# Altium schematic symbol library Diode.SchLib: 578 symbols (part 3 of 4)
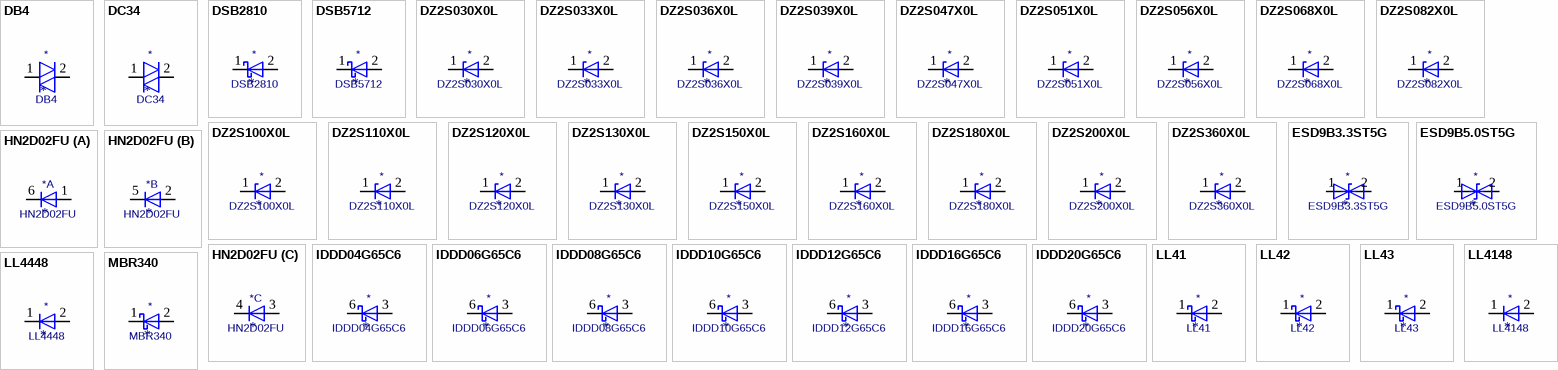
[diagram p17: symbols DB4 to MBR340]

## IDDD06G65C6
designator *  value IDDD06G65C6
ki_keywords: sic diode; ki_description: 650V, 6A, SiC Schottky Diode, CoolSiC, PG-HDSOP-10-1 (DDPAK); ki_fp_filters: Infineon*PG*HDSOP*; Footprint: Package_TO_SOT_SMD:Infineon_PG-HDSOP-10-1; Supplier: https://www.infineon.com/dgdl/Infineon-IDDD06G65C6-DS-v02_00-EN.pdf?fileId=5546d462625a528f01628f86ff8c0e09
footprint Infineon_PG-HDSOP-10-1
pins: 1 NC (in) hidden, 2 NC (in) hidden, 3 A, 4 A hidden, 5 A hidden, 6 K, 7 K hidden, 8 K hidden, 9 K hidden, 10 K hidden

## IDDD08G65C6
designator *  value IDDD08G65C6
ki_keywords: sic diode; ki_description: 650V, 8A, SiC Schottky Diode, CoolSiC, PG-HDSOP-10-1 (DDPAK); ki_fp_filters: Infineon*PG*HDSOP*; Footprint: Package_TO_SOT_SMD:Infineon_PG-HDSOP-10-1; Supplier: https://www.infineon.com/dgdl/Infineon-IDDD08G65C6-DS-v02_00-EN.pdf?fileId=5546d462625a528f01628ff7d31a104b
footprint Infineon_PG-HDSOP-10-1
pins: 1 NC (in) hidden, 2 NC (in) hidden, 3 A, 4 A hidden, 5 A hidden, 6 K, 7 K hidden, 8 K hidden, 9 K hidden, 10 K hidden

## IDDD10G65C6
designator *  value IDDD10G65C6
ki_keywords: sic diode; ki_description: 650V, 10A, SiC Schottky Diode, CoolSiC, PG-HDSOP-10-1 (DDPAK); ki_fp_filters: Infineon*PG*HDSOP*; Footprint: Package_TO_SOT_SMD:Infineon_PG-HDSOP-10-1; Supplier: https://www.infineon.com/dgdl/Infineon-IDDD10G65C6-DS-v02_00-EN.pdf?fileId=5546d462625a528f01628ff848ec1051
footprint Infineon_PG-HDSOP-10-1
pins: 1 NC (in) hidden, 2 NC (in) hidden, 3 A, 4 A hidden, 5 A hidden, 6 K, 7 K hidden, 8 K hidden, 9 K hidden, 10 K hidden

## IDDD12G65C6
designator *  value IDDD12G65C6
ki_keywords: sic diode; ki_description: 650V, 12A, SiC Schottky Diode, CoolSiC, PG-HDSOP-10-1 (DDPAK); ki_fp_filters: Infineon*PG*HDSOP*; Footprint: Package_TO_SOT_SMD:Infineon_PG-HDSOP-10-1; Supplier: https://www.infineon.com/dgdl/Infineon-IDDD12G65C6-DS-v02_00-EN.pdf?fileId=5546d462625a528f01628f86ec3e0e06
footprint Infineon_PG-HDSOP-10-1
pins: 1 NC (in) hidden, 2 NC (in) hidden, 3 A, 4 A hidden, 5 A hidden, 6 K, 7 K hidden, 8 K hidden, 9 K hidden, 10 K hidden

## IDDD16G65C6
designator *  value IDDD16G65C6
ki_keywords: sic diode; ki_description: 650V, 16A, SiC Schottky Diode, CoolSiC, PG-HDSOP-10-1 (DDPAK); ki_fp_filters: Infineon*PG*HDSOP*; Footprint: Package_TO_SOT_SMD:Infineon_PG-HDSOP-10-1; Supplier: https://www.infineon.com/dgdl/Infineon-IDDD16G65C6-DS-v02_00-EN.pdf?fileId=5546d462625a528f01628f8711b50e0c
footprint Infineon_PG-HDSOP-10-1
pins: 1 NC (in) hidden, 2 NC (in) hidden, 3 A, 4 A hidden, 5 A hidden, 6 K, 7 K hidden, 8 K hidden, 9 K hidden, 10 K hidden

## IDDD20G65C6
designator *  value IDDD20G65C6
ki_keywords: sic diode; ki_description: 650V, 20A, SiC Schottky Diode, CoolSiC, PG-HDSOP-10-1 (DDPAK); ki_fp_filters: Infineon*PG*HDSOP*; Footprint: Package_TO_SOT_SMD:Infineon_PG-HDSOP-10-1; Supplier: https://www.infineon.com/dgdl/Infineon-IDDD20G65C6-DS-v02_00-EN.pdf?fileId=5546d462625a528f01628ff837cf104e
footprint Infineon_PG-HDSOP-10-1
pins: 1 NC (in) hidden, 2 NC (in) hidden, 3 A, 4 A hidden, 5 A hidden, 6 K, 7 K hidden, 8 K hidden, 9 K hidden, 10 K hidden

## LL41
designator *  value LL41
ki_keywords: diode Schottky; ki_description: 100V 0.1A Small Signal Schottky diode, MiniMELF; ki_fp_filters: D*MiniMELF*; Footprint: Diode_SMD:D_MiniMELF; Supplier: http://www.vishay.com/docs/85659/bat41.pdf
footprint D_MiniMELF
pins: 1 K, 2 A

## LL42
designator *  value LL42
ki_keywords: diode Schottky; ki_description: 30V 0.2A Small Signal Schottky diode, MiniMELF; ki_fp_filters: D*MiniMELF*; Footprint: Diode_SMD:D_MiniMELF; Supplier: http://www.vishay.com/docs/85672/ll42.pdf
footprint D_MiniMELF
pins: 1 K, 2 A

## LL43
designator *  value LL43
ki_keywords: diode Schottky; ki_description: 30V 0.2A Small Signal Schottky diode, MiniMELF; ki_fp_filters: D*MiniMELF*; Footprint: Diode_SMD:D_MiniMELF; Supplier: http://www.vishay.com/docs/85672/ll42.pdf
footprint D_MiniMELF
pins: 1 K, 2 A

## LL4148
designator *  value LL4148
ki_keywords: diode; ki_description: 100V 0.15A standard switching diode, MiniMELF; ki_fp_filters: D*MiniMELF*; Footprint: Diode_SMD:D_MiniMELF; Supplier: http://www.vishay.com/docs/85557/ll4148.pdf
footprint D_MiniMELF
pins: 1 K, 2 A

## LL4448
designator *  value LL4448
ki_keywords: diode; ki_description: 100V 0.15A standard switching diode, MiniMELF; ki_fp_filters: D*MiniMELF*; Footprint: Diode_SMD:D_MiniMELF; Supplier: http://www.vishay.com/docs/85557/ll4148.pdf
footprint D_MiniMELF
pins: 1 K, 2 A

## MBR340
designator *  value MBR340
ki_keywords: diode Schottky; ki_description: 40V 3A Schottky Barrier Rectifier Diode, DO-201AD; ki_fp_filters: D*DO?201AD*; Footprint: Diode_THT:D_DO-201AD_P15.24mm_Horizontal; Supplier: http://www.onsemi.com/pub_link/Collateral/MBR340-D.PDF
footprint D_DO-201AD_P15.24mm_Horizontal
pins: 1 K, 2 A

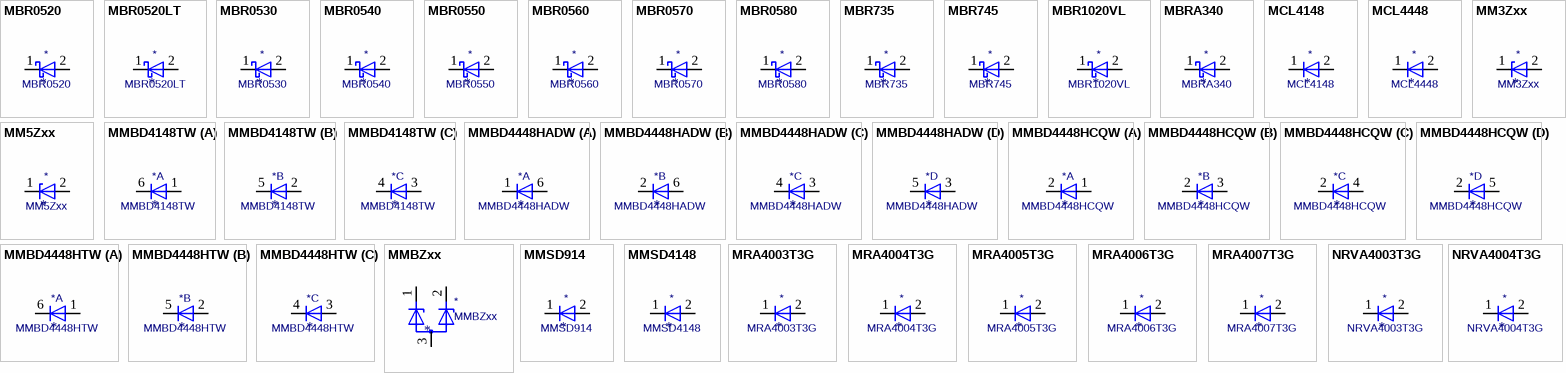
[diagram p9: symbols MBR0520 to NRVA4004T3G]

## MBR0520
designator *  value MBR0520
ki_keywords: diode Schottky; ki_description: 20V 0.5A Schottky Power Rectifier Diode, SOD-123; ki_fp_filters: D*SOD?123*; Footprint: Diode_SMD:D_SOD-123; Supplier: http://www.mccsemi.com/up_pdf/MBR0520~MBR0580(SOD123).pdf
footprint D_SOD-123
pins: 1 K, 2 A

## MBR0520LT
designator *  value MBR0520LT
ki_keywords: diode Schottky; ki_description: 20V 0.5A Schottky Power Rectifier Diode, SOD-123; ki_fp_filters: D*SOD?123*; Footprint: Diode_SMD:D_SOD-123; Supplier: http://www.onsemi.com/pub_link/Collateral/MBR0520LT1-D.PDF
footprint D_SOD-123
pins: 1 K, 2 A

## MBR0530
designator *  value MBR0530
ki_keywords: diode Schottky; ki_description: 30V 0.5A Schottky Power Rectifier Diode, SOD-123; ki_fp_filters: D*SOD?123*; Footprint: Diode_SMD:D_SOD-123; Supplier: http://www.mccsemi.com/up_pdf/MBR0520~MBR0580(SOD123).pdf
footprint D_SOD-123
pins: 1 K, 2 A

## MBR0540
designator *  value MBR0540
ki_keywords: diode Schottky; ki_description: 40V 0.5A Schottky Power Rectifier Diode, SOD-123; ki_fp_filters: D*SOD?123*; Footprint: Diode_SMD:D_SOD-123; Supplier: http://www.mccsemi.com/up_pdf/MBR0520~MBR0580(SOD123).pdf
footprint D_SOD-123
pins: 1 K, 2 A

## MBR0550
designator *  value MBR0550
ki_keywords: diode Schottky; ki_description: 50V 0.5A Schottky Power Rectifier Diode, SOD-123; ki_fp_filters: D*SOD?123*; Footprint: Diode_SMD:D_SOD-123; Supplier: http://www.mccsemi.com/up_pdf/MBR0520~MBR0580(SOD123).pdf
footprint D_SOD-123
pins: 1 K, 2 A

## MBR0560
designator *  value MBR0560
ki_keywords: diode Schottky; ki_description: 60V 0.5A Schottky Power Rectifier Diode, SOD-123; ki_fp_filters: D*SOD?123*; Footprint: Diode_SMD:D_SOD-123; Supplier: http://www.mccsemi.com/up_pdf/MBR0520~MBR0580(SOD123).pdf
footprint D_SOD-123
pins: 1 K, 2 A

## MBR0570
designator *  value MBR0570
ki_keywords: diode Schottky; ki_description: 70V 0.5A Schottky Power Rectifier Diode, SOD-123; ki_fp_filters: D*SOD?123*; Footprint: Diode_SMD:D_SOD-123; Supplier: http://www.mccsemi.com/up_pdf/MBR0520~MBR0580(SOD123).pdf
footprint D_SOD-123
pins: 1 K, 2 A

## MBR0580
designator *  value MBR0580
ki_keywords: diode Schottky; ki_description: 80V 0.5A Schottky Power Rectifier Diode, SOD-123; ki_fp_filters: D*SOD?123*; Footprint: Diode_SMD:D_SOD-123; Supplier: http://www.mccsemi.com/up_pdf/MBR0520~MBR0580(SOD123).pdf
footprint D_SOD-123
pins: 1 K, 2 A

## MBR735
designator *  value MBR735
ki_keywords: diode Schottky; ki_description: 35V 7.5A Schottky Barrier Rectifier Diode, TO-220; ki_fp_filters: TO?220*; Footprint: Package_TO_SOT_THT:TO-220-2_Vertical; Supplier: http://www.onsemi.com/pub_link/Collateral/MBR735-D.PDF
footprint TO-220-2_Vertical
pins: 1 K, 2 A

## MBR745
designator *  value MBR745
ki_keywords: diode Schottky; ki_description: 45V 7.5A Schottky Barrier Rectifier Diode, TO-220; ki_fp_filters: TO?220*; Footprint: Package_TO_SOT_THT:TO-220-2_Vertical; Supplier: http://www.onsemi.com/pub_link/Collateral/MBR735-D.PDF
footprint TO-220-2_Vertical
pins: 1 K, 2 A

## MBR1020VL
designator *  value MBR1020VL
ki_keywords: forward voltage diode; ki_description: 20V, 1A, 340 mV, Schottky Diode Rectifier, SOD-123F; ki_fp_filters: D*SOD?123F*; Footprint: Diode_SMD:D_SOD-123F; Supplier: https://www.onsemi.com/pub/Collateral/MBR1020VL-D.PDF
footprint D_SOD-123F
pins: 1 K, 2 A

## MBRA340
designator *  value MBRA340
ki_keywords: diode Schottky; ki_description: 40V 3A Schottky Barrier Rectifier Diode, SMA(DO-214AC); ki_fp_filters: D*SMA*; Footprint: Diode_SMD:D_SMA; Supplier: https://www.onsemi.com/pub/Collateral/MBRA340T3-D.PDF
footprint D_SMA
pins: 1 K, 2 A

## MCL4148
designator *  value MCL4148
ki_keywords: diode; ki_description: 75V 0.2A Switching Diode, MicroMELF; ki_fp_filters: D*MicroMELF*; Footprint: Diode_SMD:D_MicroMELF; Supplier: http://www.vishay.com/docs/85566/mlc4148.pdf
footprint D_MicroMELF
pins: 1 K, 2 A

## MCL4448
designator *  value MCL4448
ki_keywords: diode; ki_description: 75V 0.2A Switching Diode, MicroMELF; ki_fp_filters: D*MicroMELF*; Footprint: Diode_SMD:D_MicroMELF; Supplier: http://www.vishay.com/docs/85566/mlc4148.pdf
footprint D_MicroMELF
pins: 1 K, 2 A

## MM3Zxx
designator *  value MM3Zxx
ki_keywords: zener diode; ki_description: 300mW Zener Diode, SOD-323F; ki_fp_filters: D?SOD?323F*; Footprint: Diode_SMD:D_SOD-323F; Supplier: https://diotec.com/tl_files/diotec/files/pdf/datasheets/mm3z2v4.pdf
footprint D_SOD-323F
pins: 1 K, 2 A

## MM5Zxx
designator *  value MM5Zxx
ki_keywords: zener diode; ki_description: 300mW Zener Diode, SOD-523; ki_fp_filters: D?SOD?523*; Footprint: Diode_SMD:D_SOD-523; Supplier: https://diotec.com/tl_files/diotec/files/pdf/datasheets/mm5z2v4.pdf
footprint D_SOD-523
pins: 1 K, 2 A

## MMBD4148TW
designator *  value MMBD4148TW
ki_keywords: diode; ki_description: Fast switching diode array 3 independent; ki_fp_filters: *SOT?363*; Footprint: Package_TO_SOT_SMD:SOT-363_SC-70-6; Supplier: http://www.diodes.com/datasheets/ds30154.pdf
footprint SOT-363_SC-70-6
part A pins: 1 A, 6 K
part B pins: 2 A, 5 K
part C pins: 3 A, 4 K

## MMBD4448HADW
designator *  value MMBD4448HADW
ki_keywords: diode; ki_description: Fast Switching Diode Array 2 pair Com A; ki_fp_filters: SOT?363*; Footprint: Package_TO_SOT_SMD:SOT-363_SC-70-6; Supplier: http://www.diodes.com/datasheets/ds30153.pdf
footprint SOT-363_SC-70-6
part A pins: 1 K, 6 A
part B pins: 2 K, 6 A
part C pins: 3 A, 4 K
part D pins: 3 A, 5 K

## MMBD4448HCQW
designator *  value MMBD4448HCQW
ki_keywords: diode; ki_description: Quad Switching Diode Array Common Cathode; ki_fp_filters: SOT?353*; Footprint: Package_TO_SOT_SMD:SOT-353_SC-70-5; Supplier: http://www.diodes.com/datasheets/ds30153.pdf
footprint SOT-353_SC-70-5
part A pins: 1 A, 2 K
part B pins: 2 K, 3 A
part C pins: 2 K, 4 A
part D pins: 2 K, 5 A

## MMBD4448HTW
designator *  value MMBD4448HTW
ki_keywords: diode; ki_description: Fast switching diode array 3 independent; ki_fp_filters: *SOT?363*; Footprint: Package_TO_SOT_SMD:SOT-363_SC-70-6; Supplier: http://www.diodes.com/datasheets/ds30153.pdf
footprint SOT-363_SC-70-6
part A pins: 1 A, 6 K
part B pins: 2 A, 5 K
part C pins: 3 A, 4 K

## MMBZxx
designator *  value MMBZxx
ki_keywords: dual zener diode; ki_description: Double Zener Diode, Common Anode, 225mW, SOT-23; ki_fp_filters: SOT?23*; Footprint: Package_TO_SOT_SMD:SOT-23; Supplier: http://www.onsemi.com/pub/Collateral/MMBZ5V6ALT1-D.PDF
footprint SOT-23
pins: 1 K, 2 K, 3 A

## MMSD914
designator *  value MMSD914
ki_keywords: diode; ki_description: 100V 0.2A Switching Diode, SOD-123; ki_fp_filters: D*SOD?123*; Footprint: Diode_SMD:D_SOD-123; Supplier: https://www.onsemi.com/pub/Collateral/MMSD914T1-D.PDF
footprint D_SOD-123
pins: 1 K, 2 A

## MMSD4148
designator *  value MMSD4148
ki_keywords: diode; ki_description: 100V 200mA Switching Diode, SOD-123; ki_fp_filters: D*SOD?123*; Footprint: Diode_SMD:D_SOD-123; Supplier: https://www.onsemi.com/pub/Collateral/MMSD4148T1-D.PDF
footprint D_SOD-123
pins: 1 K, 2 A

## MRA4003T3G
designator *  value MRA4003T3G
ki_keywords: diode; ki_description: 300V, 1A, General Purpose Rectifier Diode, SMA(DO-214AC); ki_fp_filters: D*SMA*; Footprint: Diode_SMD:D_SMA; Supplier: http://www.onsemi.com/pub_link/Collateral/MRA4003T3-D.PDF
footprint D_SMA
pins: 1 K, 2 A

## MRA4004T3G
designator *  value MRA4004T3G
ki_keywords: diode; ki_description: 400V, 1A, General Purpose Rectifier Diode, SMA(DO-214AC); ki_fp_filters: D*SMA*; Footprint: Diode_SMD:D_SMA; Supplier: http://www.onsemi.com/pub_link/Collateral/MRA4003T3-D.PDF
footprint D_SMA
pins: 1 K, 2 A

## MRA4005T3G
designator *  value MRA4005T3G
ki_keywords: diode; ki_description: 600V, 1A, General Purpose Rectifier Diode, SMA(DO-214AC); ki_fp_filters: D*SMA*; Footprint: Diode_SMD:D_SMA; Supplier: http://www.onsemi.com/pub_link/Collateral/MRA4003T3-D.PDF
footprint D_SMA
pins: 1 K, 2 A

## MRA4006T3G
designator *  value MRA4006T3G
ki_keywords: diode; ki_description: 800V, 1A, General Purpose Rectifier Diode, SMA(DO-214AC); ki_fp_filters: D*SMA*; Footprint: Diode_SMD:D_SMA; Supplier: http://www.onsemi.com/pub_link/Collateral/MRA4003T3-D.PDF
footprint D_SMA
pins: 1 K, 2 A

## MRA4007T3G
designator *  value MRA4007T3G
ki_keywords: diode; ki_description: 1000V, 1A, General Purpose Rectifier Diode, SMA(DO-214AC); ki_fp_filters: D*SMA*; Footprint: Diode_SMD:D_SMA; Supplier: http://www.onsemi.com/pub_link/Collateral/MRA4003T3-D.PDF
footprint D_SMA
pins: 1 K, 2 A

## NRVA4003T3G
designator *  value NRVA4003T3G
ki_keywords: AEC-Q101; ki_description: 300V, 1A, General Purpose Rectifier Diode, SMA(DO-214AC); ki_fp_filters: D*SMA*; Footprint: Diode_SMD:D_SMA; Supplier: http://www.onsemi.com/pub_link/Collateral/MRA4003T3-D.PDF
footprint D_SMA
pins: 1 K, 2 A

## NRVA4004T3G
designator *  value NRVA4004T3G
ki_keywords: AEC-Q101; ki_description: 400V, 1A, General Purpose Rectifier Diode, SMA(DO-214AC); ki_fp_filters: D*SMA*; Footprint: Diode_SMD:D_SMA; Supplier: http://www.onsemi.com/pub_link/Collateral/MRA4003T3-D.PDF
footprint D_SMA
pins: 1 K, 2 A

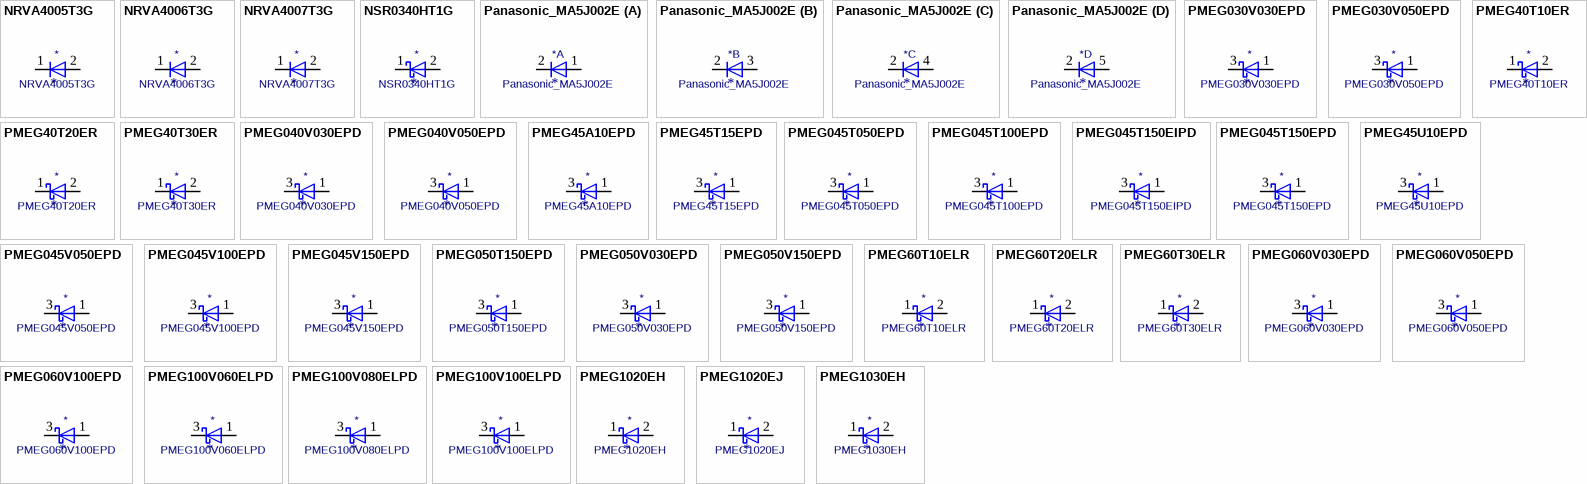
[diagram p10: symbols NRVA4005T3G to PMEG1030EH]

## NRVA4005T3G
designator *  value NRVA4005T3G
ki_keywords: AEC-Q101; ki_description: 600V, 1A, General Purpose Rectifier Diode, SMA(DO-214AC); ki_fp_filters: D*SMA*; Footprint: Diode_SMD:D_SMA; Supplier: http://www.onsemi.com/pub_link/Collateral/MRA4003T3-D.PDF
footprint D_SMA
pins: 1 K, 2 A

## NRVA4006T3G
designator *  value NRVA4006T3G
ki_keywords: AEC-Q101; ki_description: 800V, 1A, General Purpose Rectifier Diode, SMA(DO-214AC); ki_fp_filters: D*SMA*; Footprint: Diode_SMD:D_SMA; Supplier: http://www.onsemi.com/pub_link/Collateral/MRA4003T3-D.PDF
footprint D_SMA
pins: 1 K, 2 A

## NRVA4007T3G
designator *  value NRVA4007T3G
ki_keywords: AEC-Q101; ki_description: 1000V, 1A, General Purpose Rectifier Diode, SMA(DO-214AC); ki_fp_filters: D*SMA*; Footprint: Diode_SMD:D_SMA; Supplier: http://www.onsemi.com/pub_link/Collateral/MRA4003T3-D.PDF
footprint D_SMA
pins: 1 K, 2 A

## NSR0340HT1G
designator *  value NSR0340HT1G
ki_keywords: diode Schottky; ki_description: 40V 0.25A Schottky Diode, SOD-323; ki_fp_filters: D*SOD?323*; Footprint: Diode_SMD:D_SOD-323; Supplier: https://www.onsemi.com/pub/Collateral/NSR0340H-D.PDF
footprint D_SOD-323
pins: 1 K, 2 A

## Panasonic_MA5J002E
designator *  value Panasonic_MA5J002E
ki_keywords: diode; ki_description: Quad Ultra high Speed Switching Diode Array Com K; ki_fp_filters: SOT?353*; Footprint: Package_TO_SOT_SMD:SOT-353_SC-70-5; Supplier: http://www.semicon.panasonic.co.jp/ds4/MA5J002E_BED_discon.pdf
footprint SOT-353_SC-70-5
part A pins: 1 A, 2 K
part B pins: 2 K, 3 A
part C pins: 2 K, 4 A
part D pins: 2 K, 5 A

## PMEG030V030EPD
designator *  value PMEG030V030EPD
ki_keywords: forward voltage diode; ki_description: 30V, 3A low Vf MEGA Schottky barrier rectifier, SOT-1289; ki_fp_filters: Nexperia*CFP15*SOT?1289*; Footprint: Package_TO_SOT_SMD:Nexperia_CFP15_SOT-1289; Supplier: https://assets.nexperia.com/documents/data-sheet/PMEG030V030EPD.pdf
footprint Nexperia_CFP15_SOT-1289
pins: 1 A, 2 A hidden, 3 K

## PMEG030V050EPD
designator *  value PMEG030V050EPD
ki_keywords: forward voltage diode; ki_description: 30V, 5A low Vf MEGA Schottky barrier rectifier, SOT-1289; ki_fp_filters: Nexperia*CFP15*SOT?1289*; Footprint: Package_TO_SOT_SMD:Nexperia_CFP15_SOT-1289; Supplier: https://assets.nexperia.com/documents/data-sheet/PMEG030V050EPD.pdf
footprint Nexperia_CFP15_SOT-1289
pins: 1 A, 2 A hidden, 3 K

## PMEG40T10ER
designator *  value PMEG40T10ER
ki_keywords: forward voltage diode; ki_description: 40V, 1A low Vf Trench MEGA Schottky barrier rectifier, SOD-123W; ki_fp_filters: Nexperia*CFP3*SOD?123W*; Footprint: Diode_SMD:Nexperia_CFP3_SOD-123W; Supplier: https://assets.nexperia.com/documents/data-sheet/PMEG40T10ER.pdf
footprint Nexperia_CFP3_SOD-123W
pins: 1 K, 2 A

## PMEG40T20ER
designator *  value PMEG40T20ER
ki_keywords: forward voltage diode; ki_description: 40V, 2A low Vf Trench MEGA Schottky barrier rectifier, SOD-123W; ki_fp_filters: Nexperia*CFP3*SOD?123W*; Footprint: Diode_SMD:Nexperia_CFP3_SOD-123W; Supplier: https://assets.nexperia.com/documents/data-sheet/PMEG40T20ER.pdf
footprint Nexperia_CFP3_SOD-123W
pins: 1 K, 2 A

## PMEG40T30ER
designator *  value PMEG40T30ER
ki_keywords: forward voltage diode; ki_description: 40V, 3A low Vf Trench MEGA Schottky barrier rectifier, SOD-123W; ki_fp_filters: Nexperia*CFP3*SOD?123W*; Footprint: Diode_SMD:Nexperia_CFP3_SOD-123W; Supplier: https://assets.nexperia.com/documents/data-sheet/PMEG40T30ER.pdf
footprint Nexperia_CFP3_SOD-123W
pins: 1 K, 2 A

## PMEG040V030EPD
designator *  value PMEG040V030EPD
ki_keywords: forward voltage diode; ki_description: 40V, 3A low Vf MEGA Schottky barrier rectifier, SOT-1289; ki_fp_filters: Nexperia*CFP15*SOT?1289*; Footprint: Package_TO_SOT_SMD:Nexperia_CFP15_SOT-1289; Supplier: https://assets.nexperia.com/documents/data-sheet/PMEG040V030EPD.pdf
footprint Nexperia_CFP15_SOT-1289
pins: 1 A, 2 A hidden, 3 K

## PMEG040V050EPD
designator *  value PMEG040V050EPD
ki_keywords: forward voltage diode; ki_description: 40V, 5A low Vf MEGA Schottky barrier rectifier, SOT-1289; ki_fp_filters: Nexperia*CFP15*SOT?1289*; Footprint: Package_TO_SOT_SMD:Nexperia_CFP15_SOT-1289; Supplier: https://assets.nexperia.com/documents/data-sheet/PMEG040V050EPD.pdf
footprint Nexperia_CFP15_SOT-1289
pins: 1 A, 2 A hidden, 3 K

## PMEG45A10EPD
designator *  value PMEG45A10EPD
ki_keywords: forward voltage diode; ki_description: 45V, 10A low Vf MEGA Schottky barrier rectifier, SOT-1289; ki_fp_filters: Nexperia*CFP15*SOT?1289*; Footprint: Package_TO_SOT_SMD:Nexperia_CFP15_SOT-1289; Supplier: https://assets.nexperia.com/documents/data-sheet/PMEG45A10EPD.pdf
footprint Nexperia_CFP15_SOT-1289
pins: 1 A, 2 A hidden, 3 K

## PMEG45T15EPD
designator *  value PMEG45T15EPD
ki_keywords: forward voltage diode; ki_description: 45V, 15A low Vf Trench MEGA Schottky barrier rectifier, SOT-1289; ki_fp_filters: Nexperia*CFP15*SOT?1289*; Footprint: Package_TO_SOT_SMD:Nexperia_CFP15_SOT-1289; Supplier: https://assets.nexperia.com/documents/data-sheet/PMEG45T15EPD.pdf
footprint Nexperia_CFP15_SOT-1289
pins: 1 A, 2 A hidden, 3 K

## PMEG045T050EPD
designator *  value PMEG045T050EPD
ki_keywords: forward voltage diode; ki_description: 45V, 5A low Vf Trench MEGA Schottky barrier rectifier, SOT-1289; ki_fp_filters: Nexperia*CFP15*SOT?1289*; Footprint: Package_TO_SOT_SMD:Nexperia_CFP15_SOT-1289; Supplier: https://assets.nexperia.com/documents/data-sheet/PMEG045T050EPD.pdf
footprint Nexperia_CFP15_SOT-1289
pins: 1 A, 2 A hidden, 3 K

## PMEG045T100EPD
designator *  value PMEG045T100EPD
ki_keywords: forward voltage diode; ki_description: 45V, 10A low Vf Trench MEGA Schottky barrier rectifier, SOT-1289; ki_fp_filters: Nexperia*CFP15*SOT?1289*; Footprint: Package_TO_SOT_SMD:Nexperia_CFP15_SOT-1289; Supplier: https://assets.nexperia.com/documents/data-sheet/PMEG045T100EPD.pdf
footprint Nexperia_CFP15_SOT-1289
pins: 1 A, 2 A hidden, 3 K

## PMEG045T150EIPD
designator *  value PMEG045T150EIPD
ki_keywords: forward voltage diode; ki_description: 45V, 15A low Vf Trench MEGA Schottky barrier rectifier, SOT-1289; ki_fp_filters: Nexperia*CFP15*SOT?1289*; Footprint: Package_TO_SOT_SMD:Nexperia_CFP15_SOT-1289; Supplier: https://assets.nexperia.com/documents/data-sheet/PMEG045T150EIPD.pdf
footprint Nexperia_CFP15_SOT-1289
pins: 1 A, 2 A hidden, 3 K

## PMEG045T150EPD
designator *  value PMEG045T150EPD
ki_keywords: forward voltage diode; ki_description: 45V, 15A low Vf Trench MEGA Schottky barrier rectifier, SOT-1289; ki_fp_filters: Nexperia*CFP15*SOT?1289*; Footprint: Package_TO_SOT_SMD:Nexperia_CFP15_SOT-1289; Supplier: https://assets.nexperia.com/documents/data-sheet/PMEG045T150EPD.pdf
footprint Nexperia_CFP15_SOT-1289
pins: 1 A, 2 A hidden, 3 K

## PMEG45U10EPD
designator *  value PMEG45U10EPD
ki_keywords: forward voltage diode; ki_description: 45V, 10A extremely low Vf MEGA Schottky barrier rectifier, SOT-1289; ki_fp_filters: Nexperia*CFP15*SOT?1289*; Footprint: Package_TO_SOT_SMD:Nexperia_CFP15_SOT-1289; Supplier: https://assets.nexperia.com/documents/data-sheet/PMEG45U10EPD.pdf
footprint Nexperia_CFP15_SOT-1289
pins: 1 A, 2 A hidden, 3 K

## PMEG045V050EPD
designator *  value PMEG045V050EPD
ki_keywords: forward voltage diode; ki_description: 45V, 5A low Vf MEGA Schottky barrier rectifier, SOT-1289; ki_fp_filters: Nexperia*CFP15*SOT?1289*; Footprint: Package_TO_SOT_SMD:Nexperia_CFP15_SOT-1289; Supplier: https://assets.nexperia.com/documents/data-sheet/PMEG045V050EPD.pdf
footprint Nexperia_CFP15_SOT-1289
pins: 1 A, 2 A hidden, 3 K

## PMEG045V100EPD
designator *  value PMEG045V100EPD
ki_keywords: forward voltage diode; ki_description: 45V, 10A low Vf MEGA Schottky barrier rectifier, SOT-1289; ki_fp_filters: Nexperia*CFP15*SOT?1289*; Footprint: Package_TO_SOT_SMD:Nexperia_CFP15_SOT-1289; Supplier: https://assets.nexperia.com/documents/data-sheet/PMEG045V100EPD.pdf
footprint Nexperia_CFP15_SOT-1289
pins: 1 A, 2 A hidden, 3 K

## PMEG045V150EPD
designator *  value PMEG045V150EPD
ki_keywords: forward voltage diode; ki_description: 45V, 15A low Vf MEGA Schottky barrier rectifier, SOT-1289; ki_fp_filters: Nexperia*CFP15*SOT?1289*; Footprint: Package_TO_SOT_SMD:Nexperia_CFP15_SOT-1289; Supplier: https://assets.nexperia.com/documents/data-sheet/PMEG045V150EPD.pdf
footprint Nexperia_CFP15_SOT-1289
pins: 1 A, 2 A hidden, 3 K

## PMEG050T150EPD
designator *  value PMEG050T150EPD
ki_keywords: forward voltage diode; ki_description: 50V, 15A low Vf Trench MEGA Schottky barrier rectifier, SOT-1289; ki_fp_filters: Nexperia*CFP15*SOT?1289*; Footprint: Package_TO_SOT_SMD:Nexperia_CFP15_SOT-1289; Supplier: https://assets.nexperia.com/documents/data-sheet/PMEG050T150EPD.pdf
footprint Nexperia_CFP15_SOT-1289
pins: 1 A, 2 A hidden, 3 K

## PMEG050V030EPD
designator *  value PMEG050V030EPD
ki_keywords: forward voltage diode; ki_description: 50V, 3A low Vf MEGA Schottky barrier rectifier, SOT-1289; ki_fp_filters: Nexperia*CFP15*SOT?1289*; Footprint: Package_TO_SOT_SMD:Nexperia_CFP15_SOT-1289; Supplier: https://assets.nexperia.com/documents/data-sheet/PMEG050V030EPD.pdf
footprint Nexperia_CFP15_SOT-1289
pins: 1 A, 2 A hidden, 3 K

## PMEG050V150EPD
designator *  value PMEG050V150EPD
ki_keywords: forward voltage diode; ki_description: 50V, 15A low Vf MEGA Schottky barrier rectifier, SOT-1289; ki_fp_filters: Nexperia*CFP15*SOT?1289*; Footprint: Package_TO_SOT_SMD:Nexperia_CFP15_SOT-1289; Supplier: https://assets.nexperia.com/documents/data-sheet/PMEG050V150EPD.pdf
footprint Nexperia_CFP15_SOT-1289
pins: 1 A, 2 A hidden, 3 K

## PMEG60T10ELR
designator *  value PMEG60T10ELR
ki_keywords: ir diode; ki_description: 60V, 1A low leakage current Trench MEGA Schottky barrier rectifier, SOD-123W; ki_fp_filters: Nexperia*CFP3*SOD?123W*; Footprint: Diode_SMD:Nexperia_CFP3_SOD-123W; Supplier: https://assets.nexperia.com/documents/data-sheet/PMEG60T10ELR.pdf
footprint Nexperia_CFP3_SOD-123W
pins: 1 K, 2 A

## PMEG60T20ELR
designator *  value PMEG60T20ELR
ki_keywords: ir diode; ki_description: 60V, 2A low leakage current Trench MEGA Schottky barrier rectifier, SOD-123W; ki_fp_filters: Nexperia*CFP3*SOD?123W*; Footprint: Diode_SMD:Nexperia_CFP3_SOD-123W; Supplier: https://assets.nexperia.com/documents/data-sheet/PMEG60T20ELR.pdf
footprint Nexperia_CFP3_SOD-123W
pins: 1 K, 2 A

## PMEG60T30ELR
designator *  value PMEG60T30ELR
ki_keywords: ir diode; ki_description: 60V, 3A low leakage current Trench MEGA Schottky barrier rectifier, SOD-123W; ki_fp_filters: Nexperia*CFP3*SOD?123W*; Footprint: Diode_SMD:Nexperia_CFP3_SOD-123W; Supplier: https://assets.nexperia.com/documents/data-sheet/PMEG60T30ELR.pdf
footprint Nexperia_CFP3_SOD-123W
pins: 1 K, 2 A

## PMEG060V030EPD
designator *  value PMEG060V030EPD
ki_keywords: forward voltage diode; ki_description: 60V, 3A low Vf MEGA Schottky barrier rectifier, SOT-1289; ki_fp_filters: Nexperia*CFP15*SOT?1289*; Footprint: Package_TO_SOT_SMD:Nexperia_CFP15_SOT-1289; Supplier: https://assets.nexperia.com/documents/data-sheet/PMEG060V030EPD.pdf
footprint Nexperia_CFP15_SOT-1289
pins: 1 A, 2 A hidden, 3 K

## PMEG060V050EPD
designator *  value PMEG060V050EPD
ki_keywords: forward voltage diode; ki_description: 60V, 5A low Vf MEGA Schottky barrier rectifier, SOT-1289; ki_fp_filters: Nexperia*CFP15*SOT?1289*; Footprint: Package_TO_SOT_SMD:Nexperia_CFP15_SOT-1289; Supplier: https://assets.nexperia.com/documents/data-sheet/PMEG060V050EPD.pdf
footprint Nexperia_CFP15_SOT-1289
pins: 1 A, 2 A hidden, 3 K

## PMEG060V100EPD
designator *  value PMEG060V100EPD
ki_keywords: forward voltage diode; ki_description: 60V, 10A low Vf MEGA Schottky barrier rectifier, SOT-1289; ki_fp_filters: Nexperia*CFP15*SOT?1289*; Footprint: Package_TO_SOT_SMD:Nexperia_CFP15_SOT-1289; Supplier: https://assets.nexperia.com/documents/data-sheet/PMEG060V100EPD.pdf
footprint Nexperia_CFP15_SOT-1289
pins: 1 A, 2 A hidden, 3 K

## PMEG100V060ELPD
designator *  value PMEG100V060ELPD
ki_keywords: ir diode; ki_description: 100V, 6A low leakage current MEGA Schottky barrier rectifier, SOT-1289; ki_fp_filters: Nexperia*CFP15*SOT?1289*; Footprint: Package_TO_SOT_SMD:Nexperia_CFP15_SOT-1289; Supplier: https://assets.nexperia.com/documents/data-sheet/PMEG100V060ELPD.pdf
footprint Nexperia_CFP15_SOT-1289
pins: 1 A, 2 A hidden, 3 K

## PMEG100V080ELPD
designator *  value PMEG100V080ELPD
ki_keywords: ir diode; ki_description: 100V, 8A low leakage current MEGA Schottky barrier rectifier, SOT-1289; ki_fp_filters: Nexperia*CFP15*SOT?1289*; Footprint: Package_TO_SOT_SMD:Nexperia_CFP15_SOT-1289; Supplier: https://assets.nexperia.com/documents/data-sheet/PMEG100V080ELPD.pdf
footprint Nexperia_CFP15_SOT-1289
pins: 1 A, 2 A hidden, 3 K

## PMEG100V100ELPD
designator *  value PMEG100V100ELPD
ki_keywords: ir diode; ki_description: 100V, 10A low leakage current MEGA Schottky barrier rectifier, SOT-1289; ki_fp_filters: Nexperia*CFP15*SOT?1289*; Footprint: Package_TO_SOT_SMD:Nexperia_CFP15_SOT-1289; Supplier: https://assets.nexperia.com/documents/data-sheet/PMEG100V100ELPD.pdf
footprint Nexperia_CFP15_SOT-1289
pins: 1 A, 2 A hidden, 3 K

## PMEG1020EH
designator *  value PMEG1020EH
ki_keywords: forward voltage diode; ki_description: 10V, 2A ultra low Vf MEGA Schottky barrier rectifier, SOD-123F; ki_fp_filters: D*SOD?123F*; Footprint: Diode_SMD:D_SOD-123F; Supplier: https://assets.nexperia.com/documents/data-sheet/PMEG1020EH_EJ.pdf
footprint D_SOD-123F
pins: 1 K, 2 A

## PMEG1020EJ
designator *  value PMEG1020EJ
ki_keywords: forward voltage diode; ki_description: 10V, 2A ultra low Vf MEGA Schottky barrier rectifier, SOD-323F; ki_fp_filters: D*SOD?323F*; Footprint: Diode_SMD:D_SOD-323F; Supplier: https://assets.nexperia.com/documents/data-sheet/PMEG1020EH_EJ.pdf
footprint D_SOD-323F
pins: 1 K, 2 A

## PMEG1030EH
designator *  value PMEG1030EH
ki_keywords: forward voltage diode; ki_description: 10V, 3A ultra low Vf MEGA Schottky barrier rectifier, SOD-123F; ki_fp_filters: D*SOD?123F*; Footprint: Diode_SMD:D_SOD-123F; Supplier: https://assets.nexperia.com/documents/data-sheet/PMEG1030EH_EJ.pdf
footprint D_SOD-123F
pins: 1 K, 2 A

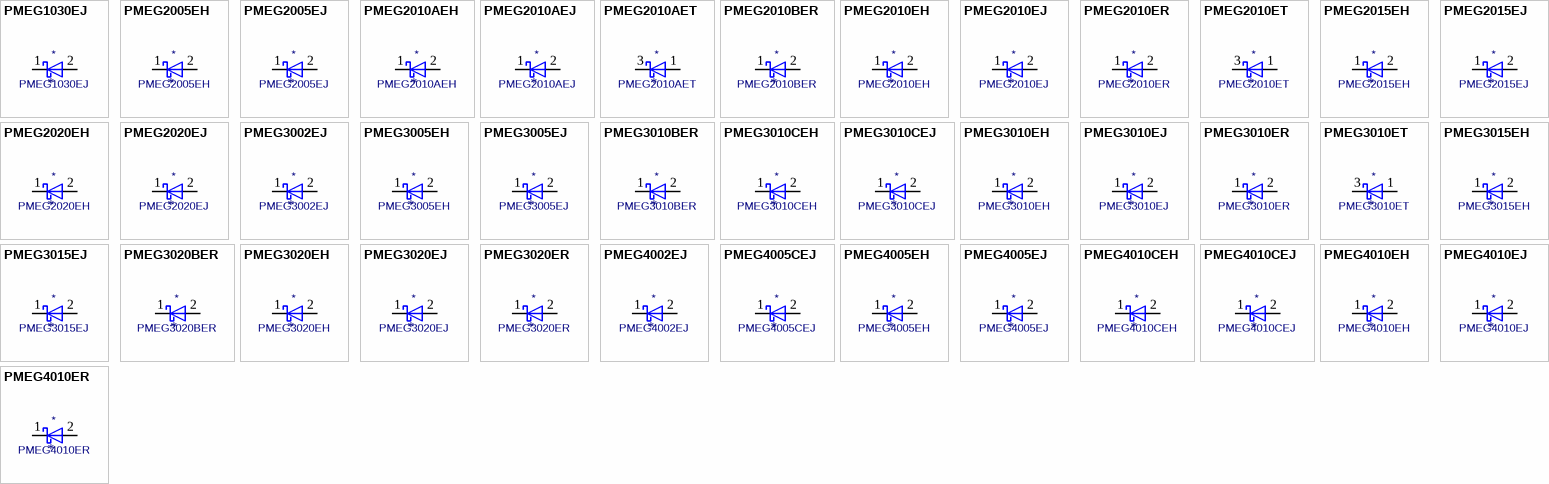
[diagram p11: symbols PMEG1030EJ to PMEG4010ER]

## PMEG1030EJ
designator *  value PMEG1030EJ
ki_keywords: forward voltage diode; ki_description: 10V, 3A ultra low Vf MEGA Schottky barrier rectifier, SOD-323F; ki_fp_filters: D*SOD?323F*; Footprint: Diode_SMD:D_SOD-323F; Supplier: https://assets.nexperia.com/documents/data-sheet/PMEG1030EH_EJ.pdf
footprint D_SOD-323F
pins: 1 K, 2 A

## PMEG2005EH
designator *  value PMEG2005EH
ki_keywords: forward voltage diode; ki_description: 20V, 500mA very low Vf MEGA Schottky barrier rectifier, SOD-123F; ki_fp_filters: D*SOD?123F*; Footprint: Diode_SMD:D_SOD-123F; Supplier: https://assets.nexperia.com/documents/data-sheet/PMEGXX05EH_EJ_SER.pdf
footprint D_SOD-123F
pins: 1 K, 2 A

## PMEG2005EJ
designator *  value PMEG2005EJ
ki_keywords: forward voltage diode; ki_description: 20V, 500mA very low Vf MEGA Schottky barrier rectifier, SOD-323F; ki_fp_filters: D*SOD?323F*; Footprint: Diode_SMD:D_SOD-323F; Supplier: https://assets.nexperia.com/documents/data-sheet/PMEGXX05EH_EJ_SER.pdf
footprint D_SOD-323F
pins: 1 K, 2 A

## PMEG2010AEH
designator *  value PMEG2010AEH
ki_keywords: forward voltage diode; ki_description: 20V, 1A very low Vf MEGA Schottky barrier rectifier, SOD-123F; ki_fp_filters: D*SOD?123F*; Footprint: Diode_SMD:D_SOD-123F; Supplier: https://assets.nexperia.com/documents/data-sheet/PMEG2010AEH_PMEG2010AET.pdf
footprint D_SOD-123F
pins: 1 K, 2 A

## PMEG2010AEJ
designator *  value PMEG2010AEJ
ki_keywords: forward voltage diode; ki_description: 20V, 1A very low Vf MEGA Schottky barrier rectifier, SOD-323F; ki_fp_filters: D*SOD?323F*; Footprint: Diode_SMD:D_SOD-323F; Supplier: https://assets.nexperia.com/documents/data-sheet/PMEG2010AEJ.pdf
footprint D_SOD-323F
pins: 1 K, 2 A

## PMEG2010AET
designator *  value PMEG2010AET
ki_keywords: forward voltage diode; ki_description: 20V, 1A very low Vf MEGA Schottky barrier rectifier, SOT-23; ki_fp_filters: SOT?23*; Footprint: Package_TO_SOT_SMD:SOT-23; Supplier: https://assets.nexperia.com/documents/data-sheet/PMEG2010AEH_PMEG2010AET.pdf
footprint SOT-23
pins: 1 A, 2 NC (in) hidden, 3 K

## PMEG2010BER
designator *  value PMEG2010BER
ki_keywords: forward voltage diode; ki_description: 20V, 1A low Vf MEGA Schottky barrier rectifier, SOD-123W; ki_fp_filters: Nexperia*CFP3*SOD?123W*; Footprint: Diode_SMD:Nexperia_CFP3_SOD-123W; Supplier: https://assets.nexperia.com/documents/data-sheet/PMEG2010BER.pdf
footprint Nexperia_CFP3_SOD-123W
pins: 1 K, 2 A

## PMEG2010EH
designator *  value PMEG2010EH
ki_keywords: forward voltage diode; ki_description: 20V, 1A very low Vf MEGA Schottky barrier rectifier, SOD-123F; ki_fp_filters: D*SOD?123F*; Footprint: Diode_SMD:D_SOD-123F; Supplier: https://assets.nexperia.com/documents/data-sheet/PMEG2010EH_EJ_ET.pdf
footprint D_SOD-123F
pins: 1 K, 2 A

## PMEG2010EJ
designator *  value PMEG2010EJ
ki_keywords: forward voltage diode; ki_description: 20V, 1A very low Vf MEGA Schottky barrier rectifier, SOD-323F; ki_fp_filters: D*SOD?323F*; Footprint: Diode_SMD:D_SOD-323F; Supplier: https://assets.nexperia.com/documents/data-sheet/PMEG2010EH_EJ_ET.pdf
footprint D_SOD-323F
pins: 1 K, 2 A

## PMEG2010ER
designator *  value PMEG2010ER
ki_keywords: forward voltage diode; ki_description: 20V, 1A low Vf MEGA Schottky barrier rectifier, SOD-123W; ki_fp_filters: Nexperia*CFP3*SOD?123W*; Footprint: Diode_SMD:Nexperia_CFP3_SOD-123W; Supplier: https://assets.nexperia.com/documents/data-sheet/PMEG2010ER.pdf
footprint Nexperia_CFP3_SOD-123W
pins: 1 K, 2 A

## PMEG2010ET
designator *  value PMEG2010ET
ki_keywords: forward voltage diode; ki_description: 20V, 1A very low Vf MEGA Schottky barrier rectifier, SOT-23; ki_fp_filters: SOT?23*; Footprint: Package_TO_SOT_SMD:SOT-23; Supplier: https://assets.nexperia.com/documents/data-sheet/PMEG2010EH_EJ_ET.pdf
footprint SOT-23
pins: 1 A, 2 NC (in) hidden, 3 K

## PMEG2015EH
designator *  value PMEG2015EH
ki_keywords: forward voltage diode; ki_description: 20V, 1.5A very low Vf MEGA Schottky barrier rectifier, SOD-123F; ki_fp_filters: D*SOD?123F*; Footprint: Diode_SMD:D_SOD-123F; Supplier: https://assets.nexperia.com/documents/data-sheet/PMEG2015EH_EJ.pdf
footprint D_SOD-123F
pins: 1 K, 2 A

## PMEG2015EJ
designator *  value PMEG2015EJ
ki_keywords: forward voltage diode; ki_description: 20V, 1.5A very low Vf MEGA Schottky barrier rectifier, SOD-323F; ki_fp_filters: D*SOD?323F*; Footprint: Diode_SMD:D_SOD-323F; Supplier: https://assets.nexperia.com/documents/data-sheet/PMEG2015EH_EJ.pdf
footprint D_SOD-323F
pins: 1 K, 2 A

## PMEG2020EH
designator *  value PMEG2020EH
ki_keywords: forward voltage diode; ki_description: 20V, 2A very low Vf MEGA Schottky barrier rectifier, SOD-123F; ki_fp_filters: D*SOD?123F*; Footprint: Diode_SMD:D_SOD-123F; Supplier: https://assets.nexperia.com/documents/data-sheet/PMEG2020EH_EJ.pdf
footprint D_SOD-123F
pins: 1 K, 2 A

## PMEG2020EJ
designator *  value PMEG2020EJ
ki_keywords: forward voltage diode; ki_description: 20V, 2A very low Vf MEGA Schottky barrier rectifier, SOD-323F; ki_fp_filters: D*SOD?323F*; Footprint: Diode_SMD:D_SOD-323F; Supplier: https://assets.nexperia.com/documents/data-sheet/PMEG2020EH_EJ.pdf
footprint D_SOD-323F
pins: 1 K, 2 A

## PMEG3002EJ
designator *  value PMEG3002EJ
ki_keywords: forward voltage diode; ki_description: 30V, 200mA low Vf MEGA Schottky barrier rectifier, SOD-323F; ki_fp_filters: D*SOD?323F*; Footprint: Diode_SMD:D_SOD-323F; Supplier: https://assets.nexperia.com/documents/data-sheet/PMEG3002EJ.pdf
footprint D_SOD-323F
pins: 1 K, 2 A

## PMEG3005EH
designator *  value PMEG3005EH
ki_keywords: forward voltage diode; ki_description: 30V, 500mA very low Vf MEGA Schottky barrier rectifier, SOD-123F; ki_fp_filters: D*SOD?123F*; Footprint: Diode_SMD:D_SOD-123F; Supplier: https://assets.nexperia.com/documents/data-sheet/PMEGXX05EH_EJ_SER.pdf
footprint D_SOD-123F
pins: 1 K, 2 A

## PMEG3005EJ
designator *  value PMEG3005EJ
ki_keywords: forward voltage diode; ki_description: 30V, 500mA very low Vf MEGA Schottky barrier rectifier, SOD-323F; ki_fp_filters: D*SOD?323F*; Footprint: Diode_SMD:D_SOD-323F; Supplier: https://assets.nexperia.com/documents/data-sheet/PMEGXX05EH_EJ_SER.pdf
footprint D_SOD-323F
pins: 1 K, 2 A

## PMEG3010BER
designator *  value PMEG3010BER
ki_keywords: forward voltage diode; ki_description: 30V, 1A low Vf MEGA Schottky barrier rectifier, SOD-123W; ki_fp_filters: Nexperia*CFP3*SOD?123W*; Footprint: Diode_SMD:Nexperia_CFP3_SOD-123W; Supplier: https://assets.nexperia.com/documents/data-sheet/PMEG3010BER.pdf
footprint Nexperia_CFP3_SOD-123W
pins: 1 K, 2 A

## PMEG3010CEH
designator *  value PMEG3010CEH
ki_keywords: forward voltage diode; ki_description: 30V, 1A very low Vf MEGA Schottky barrier rectifier, SOD-123F; ki_fp_filters: D*SOD?123F*; Footprint: Diode_SMD:D_SOD-123F; Supplier: https://assets.nexperia.com/documents/data-sheet/PMEG3010CEH_PMEG3010CEJ.pdf
footprint D_SOD-123F
pins: 1 K, 2 A

## PMEG3010CEJ
designator *  value PMEG3010CEJ
ki_keywords: forward voltage diode; ki_description: 30V, 1A very low Vf MEGA Schottky barrier rectifier, SOD-323F; ki_fp_filters: D*SOD?323F*; Footprint: Diode_SMD:D_SOD-323F; Supplier: https://assets.nexperia.com/documents/data-sheet/PMEG3010CEH_PMEG3010CEJ.pdf
footprint D_SOD-323F
pins: 1 K, 2 A

## PMEG3010EH
designator *  value PMEG3010EH
ki_keywords: forward voltage diode; ki_description: 30V, 1A very low Vf MEGA Schottky barrier rectifier, SOD-123F; ki_fp_filters: D*SOD?123F*; Footprint: Diode_SMD:D_SOD-123F; Supplier: https://assets.nexperia.com/documents/data-sheet/PMEG3010EH_EJ_ET.pdf
footprint D_SOD-123F
pins: 1 K, 2 A

## PMEG3010EJ
designator *  value PMEG3010EJ
ki_keywords: forward voltage diode; ki_description: 30V, 1A very low Vf MEGA Schottky barrier rectifier, SOD-323F; ki_fp_filters: D*SOD?323F*; Footprint: Diode_SMD:D_SOD-323F; Supplier: https://assets.nexperia.com/documents/data-sheet/PMEG3010EH_EJ_ET.pdf
footprint D_SOD-323F
pins: 1 K, 2 A

## PMEG3010ER
designator *  value PMEG3010ER
ki_keywords: forward voltage diode; ki_description: 30V, 1A low Vf MEGA Schottky barrier rectifier, SOD-123W; ki_fp_filters: Nexperia*CFP3*SOD?123W*; Footprint: Diode_SMD:Nexperia_CFP3_SOD-123W; Supplier: https://assets.nexperia.com/documents/data-sheet/PMEG3010ER.pdf
footprint Nexperia_CFP3_SOD-123W
pins: 1 K, 2 A

## PMEG3010ET
designator *  value PMEG3010ET
ki_keywords: forward voltage diode; ki_description: 30V, 1A very low Vf MEGA Schottky barrier rectifier, SOT-23; ki_fp_filters: SOT?23*; Footprint: Package_TO_SOT_SMD:SOT-23; Supplier: https://assets.nexperia.com/documents/data-sheet/PMEG3010EH_EJ_ET.pdf
footprint SOT-23
pins: 1 A, 2 NC (in) hidden, 3 K

## PMEG3015EH
designator *  value PMEG3015EH
ki_keywords: forward voltage diode; ki_description: 30V, 1.5A ultra low Vf MEGA Schottky barrier rectifier, SOD-123F; ki_fp_filters: D*SOD?123F*; Footprint: Diode_SMD:D_SOD-123F; Supplier: https://assets.nexperia.com/documents/data-sheet/PMEG3015EH_EJ.pdf
footprint D_SOD-123F
pins: 1 K, 2 A

## PMEG3015EJ
designator *  value PMEG3015EJ
ki_keywords: forward voltage diode; ki_description: 30V, 1.5A ultra low Vf MEGA Schottky barrier rectifier, SOD-323F; ki_fp_filters: D*SOD?323F*; Footprint: Diode_SMD:D_SOD-323F; Supplier: https://assets.nexperia.com/documents/data-sheet/PMEG3015EH_EJ.pdf
footprint D_SOD-323F
pins: 1 K, 2 A

## PMEG3020BER
designator *  value PMEG3020BER
ki_keywords: forward voltage diode; ki_description: 30V, 2A low Vf MEGA Schottky barrier rectifier, SOD-123W; ki_fp_filters: Nexperia*CFP3*SOD?123W*; Footprint: Diode_SMD:Nexperia_CFP3_SOD-123W; Supplier: https://assets.nexperia.com/documents/data-sheet/PMEG3020BER.pdf
footprint Nexperia_CFP3_SOD-123W
pins: 1 K, 2 A

## PMEG3020EH
designator *  value PMEG3020EH
ki_keywords: forward voltage diode; ki_description: 30V, 2A ultra low Vf MEGA Schottky barrier rectifier, SOD-123F; ki_fp_filters: D*SOD?123F*; Footprint: Diode_SMD:D_SOD-123F; Supplier: https://assets.nexperia.com/documents/data-sheet/PMEG3020EH_EJ.pdf
footprint D_SOD-123F
pins: 1 K, 2 A

## PMEG3020EJ
designator *  value PMEG3020EJ
ki_keywords: forward voltage diode; ki_description: 30V, 2A ultra low Vf MEGA Schottky barrier rectifier, SOD-323F; ki_fp_filters: D*SOD?323F*; Footprint: Diode_SMD:D_SOD-323F; Supplier: https://assets.nexperia.com/documents/data-sheet/PMEG3020EH_EJ.pdf
footprint D_SOD-323F
pins: 1 K, 2 A

## PMEG3020ER
designator *  value PMEG3020ER
ki_keywords: forward voltage diode; ki_description: 30V, 2A low Vf MEGA Schottky barrier rectifier, SOD-123W; ki_fp_filters: Nexperia*CFP3*SOD?123W*; Footprint: Diode_SMD:Nexperia_CFP3_SOD-123W; Supplier: https://assets.nexperia.com/documents/data-sheet/PMEG3020ER.pdf
footprint Nexperia_CFP3_SOD-123W
pins: 1 K, 2 A

## PMEG4002EJ
designator *  value PMEG4002EJ
ki_keywords: forward voltage diode; ki_description: 40V, 200mA low Vf MEGA Schottky barrier rectifier, SOD-323F; ki_fp_filters: D*SOD?323F*; Footprint: Diode_SMD:D_SOD-323F; Supplier: https://assets.nexperia.com/documents/data-sheet/PMEG4002EJ.pdf
footprint D_SOD-323F
pins: 1 K, 2 A

## PMEG4005CEJ
designator *  value PMEG4005CEJ
ki_keywords: forward voltage diode; ki_description: 40V, 500mA low Vf MEGA Schottky barrier rectifier, SOD-323F; ki_fp_filters: D*SOD?323F*; Footprint: Diode_SMD:D_SOD-323F; Supplier: https://assets.nexperia.com/documents/data-sheet/PMEG4005CEJ.pdf
footprint D_SOD-323F
pins: 1 K, 2 A

## PMEG4005EH
designator *  value PMEG4005EH
ki_keywords: forward voltage diode; ki_description: 40V, 500mA very low Vf MEGA Schottky barrier rectifier, SOD-123F; ki_fp_filters: D*SOD?123F*; Footprint: Diode_SMD:D_SOD-123F; Supplier: https://assets.nexperia.com/documents/data-sheet/PMEGXX05EH_EJ_SER.pdf
footprint D_SOD-123F
pins: 1 K, 2 A

## PMEG4005EJ
designator *  value PMEG4005EJ
ki_keywords: forward voltage diode; ki_description: 40V, 500mA very low Vf MEGA Schottky barrier rectifier, SOD-323F; ki_fp_filters: D*SOD?323F*; Footprint: Diode_SMD:D_SOD-323F; Supplier: https://assets.nexperia.com/documents/data-sheet/PMEGXX05EH_EJ_SER.pdf
footprint D_SOD-323F
pins: 1 K, 2 A

## PMEG4010CEH
designator *  value PMEG4010CEH
ki_keywords: forward voltage diode; ki_description: 40V, 1A very low Vf MEGA Schottky barrier rectifier, SOD-123F; ki_fp_filters: D*SOD?123F*; Footprint: Diode_SMD:D_SOD-123F; Supplier: https://assets.nexperia.com/documents/data-sheet/PMEG4010CEH_PMEG4010CEJ.pdf
footprint D_SOD-123F
pins: 1 K, 2 A

## PMEG4010CEJ
designator *  value PMEG4010CEJ
ki_keywords: forward voltage diode; ki_description: 40V, 1A very low Vf MEGA Schottky barrier rectifier, SOD-323F; ki_fp_filters: D*SOD?323F*; Footprint: Diode_SMD:D_SOD-323F; Supplier: https://assets.nexperia.com/documents/data-sheet/PMEG4010CEH_PMEG4010CEJ.pdf
footprint D_SOD-323F
pins: 1 K, 2 A

## PMEG4010EH
designator *  value PMEG4010EH
ki_keywords: forward voltage diode; ki_description: 40V, 1A very low Vf MEGA Schottky barrier rectifier, SOD-123F; ki_fp_filters: D*SOD?123F*; Footprint: Diode_SMD:D_SOD-123F; Supplier: https://assets.nexperia.com/documents/data-sheet/PMEG4010EH_EJ_ET.pdf
footprint D_SOD-123F
pins: 1 K, 2 A

## PMEG4010EJ
designator *  value PMEG4010EJ
ki_keywords: forward voltage diode; ki_description: 40V, 1A very low Vf MEGA Schottky barrier rectifier, SOD-323F; ki_fp_filters: D*SOD?323F*; Footprint: Diode_SMD:D_SOD-323F; Supplier: https://assets.nexperia.com/documents/data-sheet/PMEG4010EH_EJ_ET.pdf
footprint D_SOD-323F
pins: 1 K, 2 A

## PMEG4010ER
designator *  value PMEG4010ER
ki_keywords: forward voltage diode; ki_description: 40V, 1A low Vf MEGA Schottky barrier rectifier, SOD-123W; ki_fp_filters: Nexperia*CFP3*SOD?123W*; Footprint: Diode_SMD:Nexperia_CFP3_SOD-123W; Supplier: https://assets.nexperia.com/documents/data-sheet/PMEG4010ER.pdf
footprint Nexperia_CFP3_SOD-123W
pins: 1 K, 2 A

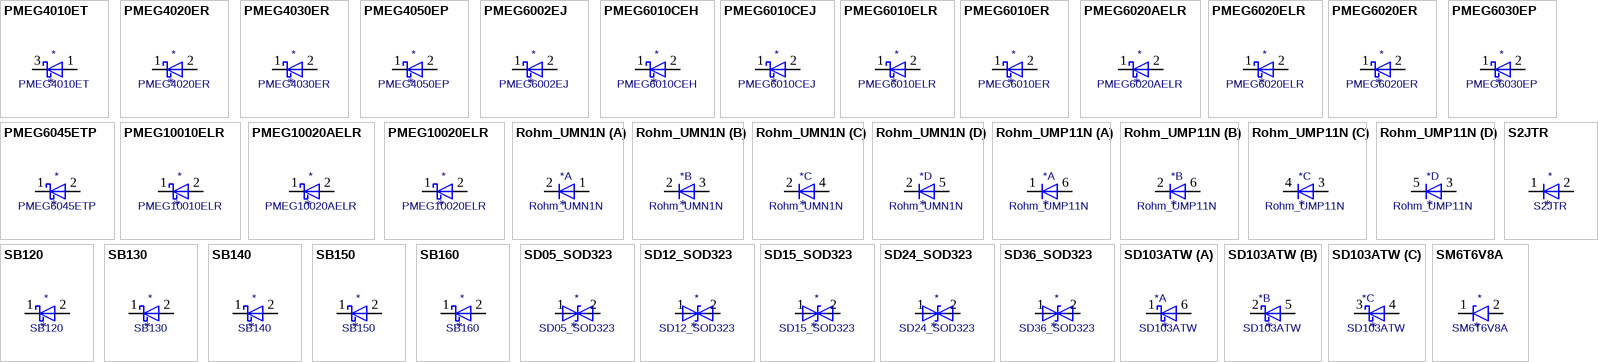
[diagram p12: symbols PMEG4010ET to SM6T6V8A]

## PMEG4010ET
designator *  value PMEG4010ET
ki_keywords: forward voltage diode; ki_description: 40V, 1A very low Vf MEGA Schottky barrier rectifier, SOT-23; ki_fp_filters: SOT?23*; Footprint: Package_TO_SOT_SMD:SOT-23; Supplier: https://assets.nexperia.com/documents/data-sheet/PMEG4010EH_EJ_ET.pdf
footprint SOT-23
pins: 1 A, 2 NC (in) hidden, 3 K

## PMEG4020ER
designator *  value PMEG4020ER
ki_keywords: forward voltage diode; ki_description: 40V, 2A low Vf MEGA Schottky barrier rectifier, SOD-123W; ki_fp_filters: Nexperia*CFP3*SOD?123W*; Footprint: Diode_SMD:Nexperia_CFP3_SOD-123W; Supplier: https://assets.nexperia.com/documents/data-sheet/PMEG4020ER.pdf
footprint Nexperia_CFP3_SOD-123W
pins: 1 K, 2 A

## PMEG4030ER
designator *  value PMEG4030ER
ki_keywords: forward voltage diode; ki_description: 40V, 3A low Vf MEGA Schottky barrier rectifier, SOD-123W; ki_fp_filters: Nexperia*CFP3*SOD?123W*; Footprint: Diode_SMD:Nexperia_CFP3_SOD-123W; Supplier: https://assets.nexperia.com/documents/data-sheet/PMEG4030ER.pdf
footprint Nexperia_CFP3_SOD-123W
pins: 1 K, 2 A

## PMEG4050EP
designator *  value PMEG4050EP
ki_keywords: forward voltage diode; ki_description: 40V, 5A low Vf Schottky barrier rectifier, SOD-128; ki_fp_filters: D*SOD?128*; Footprint: Diode_SMD:D_SOD-128; Supplier: https://assets.nexperia.com/documents/data-sheet/PMEG4050EP.pdf
footprint D_SOD-128
pins: 1 K, 2 A

## PMEG6002EJ
designator *  value PMEG6002EJ
ki_keywords: forward voltage diode; ki_description: 60V, 200mA very low Vf MEGA Schottky barrier rectifier, SOD-323F; ki_fp_filters: D*SOD?323F*; Footprint: Diode_SMD:D_SOD-323F; Supplier: https://assets.nexperia.com/documents/data-sheet/PMEG6002EJ.pdf
footprint D_SOD-323F
pins: 1 K, 2 A

## PMEG6010CEH
designator *  value PMEG6010CEH
ki_keywords: forward voltage diode; ki_description: 60V, 1A very low Vf MEGA Schottky barrier rectifier, SOD-123F; ki_fp_filters: D*SOD?123F*; Footprint: Diode_SMD:D_SOD-123F; Supplier: https://assets.nexperia.com/documents/data-sheet/PMEG6010CEH_PMEG6010CEJ.pdf
footprint D_SOD-123F
pins: 1 K, 2 A

## PMEG6010CEJ
designator *  value PMEG6010CEJ
ki_keywords: forward voltage diode; ki_description: 60V, 1A very low Vf MEGA Schottky barrier rectifier, SOD-323F; ki_fp_filters: D*SOD?323F*; Footprint: Diode_SMD:D_SOD-323F; Supplier: https://assets.nexperia.com/documents/data-sheet/PMEG6010CEH_PMEG6010CEJ.pdf
footprint D_SOD-323F
pins: 1 K, 2 A

## PMEG6010ELR
designator *  value PMEG6010ELR
ki_keywords: ir diode; ki_description: 60V, 1A low leakage current MEGA Schottky barrier rectifier, SOD-123W; ki_fp_filters: Nexperia*CFP3*SOD?123W*; Footprint: Diode_SMD:Nexperia_CFP3_SOD-123W; Supplier: https://assets.nexperia.com/documents/data-sheet/PMEG6010ELR.pdf
footprint Nexperia_CFP3_SOD-123W
pins: 1 K, 2 A

## PMEG6010ER
designator *  value PMEG6010ER
ki_keywords: forward voltage diode; ki_description: 60V, 1A low Vf MEGA Schottky barrier rectifier, SOD-123W; ki_fp_filters: Nexperia*CFP3*SOD?123W*; Footprint: Diode_SMD:Nexperia_CFP3_SOD-123W; Supplier: https://assets.nexperia.com/documents/data-sheet/PMEG6010ER.pdf
footprint Nexperia_CFP3_SOD-123W
pins: 1 K, 2 A

## PMEG6020AELR
designator *  value PMEG6020AELR
ki_keywords: ir diode; ki_description: 60V, 2A low leakage current MEGA Schottky barrier rectifier, SOD-123W; ki_fp_filters: Nexperia*CFP3*SOD?123W*; Footprint: Diode_SMD:Nexperia_CFP3_SOD-123W; Supplier: https://assets.nexperia.com/documents/data-sheet/PMEG6020AELR.pdf
footprint Nexperia_CFP3_SOD-123W
pins: 1 K, 2 A

## PMEG6020ELR
designator *  value PMEG6020ELR
ki_keywords: ir diode; ki_description: 60V, 2A low leakage current MEGA Schottky barrier rectifier, SOD-123W; ki_fp_filters: Nexperia*CFP3*SOD?123W*; Footprint: Diode_SMD:Nexperia_CFP3_SOD-123W; Supplier: https://assets.nexperia.com/documents/data-sheet/PMEG6020ELR.pdf
footprint Nexperia_CFP3_SOD-123W
pins: 1 K, 2 A

## PMEG6020ER
designator *  value PMEG6020ER
ki_keywords: forward voltage diode; ki_description: 60V, 2A low Vf MEGA Schottky barrier rectifier, SOD-123W; ki_fp_filters: Nexperia*CFP3*SOD?123W*; Footprint: Diode_SMD:Nexperia_CFP3_SOD-123W; Supplier: https://assets.nexperia.com/documents/data-sheet/PMEG6020ER.pdf
footprint Nexperia_CFP3_SOD-123W
pins: 1 K, 2 A

## PMEG6030EP
designator *  value PMEG6030EP
ki_keywords: forward voltage diode; ki_description: 60V, 3A low Vf MEGA Schottky barrier rectifier, SOD-128; ki_fp_filters: D*SOD?128*; Footprint: Diode_SMD:D_SOD-128; Supplier: https://assets.nexperia.com/documents/data-sheet/PMEG6030EP.pdf
footprint D_SOD-128
pins: 1 K, 2 A

## PMEG6045ETP
designator *  value PMEG6045ETP
ki_keywords: forward voltage diode; ki_description: 60V, 4.5A High-Temperature Schottky barrier rectifier, SOD-128; ki_fp_filters: D*SOD?128*; Footprint: Diode_SMD:D_SOD-128; Supplier: https://assets.nexperia.com/documents/data-sheet/PMEG6045ETP.pdf
footprint D_SOD-128
pins: 1 K, 2 A

## PMEG10010ELR
designator *  value PMEG10010ELR
ki_keywords: ir diode; ki_description: 100V, 1A low leakage current MEGA Schottky barrier rectifier, SOD-123W; ki_fp_filters: Nexperia*CFP3*SOD?123W*; Footprint: Diode_SMD:Nexperia_CFP3_SOD-123W; Supplier: https://assets.nexperia.com/documents/data-sheet/PMEG10010ELR.pdf
footprint Nexperia_CFP3_SOD-123W
pins: 1 K, 2 A

## PMEG10020AELR
designator *  value PMEG10020AELR
ki_keywords: ir diode; ki_description: 100V, 2A low leakage current MEGA Schottky barrier rectifier, SOD-123W; ki_fp_filters: Nexperia*CFP3*SOD?123W*; Footprint: Diode_SMD:Nexperia_CFP3_SOD-123W; Supplier: https://assets.nexperia.com/documents/data-sheet/PMEG10020AELR.pdf
footprint Nexperia_CFP3_SOD-123W
pins: 1 K, 2 A

## PMEG10020ELR
designator *  value PMEG10020ELR
ki_keywords: ir diode; ki_description: 100V, 2A low leakage current MEGA Schottky barrier rectifier, SOD-123W; ki_fp_filters: Nexperia*CFP3*SOD?123W*; Footprint: Diode_SMD:Nexperia_CFP3_SOD-123W; Supplier: https://assets.nexperia.com/documents/data-sheet/PMEG10020ELR.pdf
footprint Nexperia_CFP3_SOD-123W
pins: 1 K, 2 A

## Rohm_UMN1N
designator *  value Rohm_UMN1N
ki_keywords: diode; ki_description: High-speed switching diodes 2 pair Com A; ki_fp_filters: SOT?353*; Footprint: Package_TO_SOT_SMD:SOT-353_SC-70-5; Supplier: http://rohmfs.rohm.com/en/products/databook/datasheet/discrete/diode/switching/ump11n.pdf
footprint SOT-353_SC-70-5
part A pins: 1 A, 2 K
part B pins: 2 K, 3 A
part C pins: 2 K, 4 A
part D pins: 2 K, 5 A

## Rohm_UMP11N
designator *  value Rohm_UMP11N
ki_keywords: diode; ki_description: High-speed switching diodes 2 pair Com A; ki_fp_filters: SOT?363*; Footprint: Package_TO_SOT_SMD:SOT-363_SC-70-6; Supplier: http://rohmfs.rohm.com/en/products/databook/datasheet/discrete/diode/switching/ump11n.pdf
footprint SOT-363_SC-70-6
part A pins: 1 K, 6 A
part B pins: 2 K, 6 A
part C pins: 3 A, 4 K
part D pins: 3 A, 5 K

## S2JTR
designator *  value S2JTR
ki_keywords: diode; ki_description: 600V 2A General Purpose Rectifier Diode, SMB; ki_fp_filters: *D?SMB*; Footprint: Diode_SMD:D_SMB; Supplier: http://www.smc-diodes.com/propdf/S2A-S2M%20N0562%20REV.A.pdf
footprint D_SMB
pins: 1 K, 2 A

## SB120
designator *  value SB120
ki_keywords: diode Schottky; ki_description: 20V 1A Schottky Barrier Rectifier Diode, DO-41; ki_fp_filters: D*DO?41*; Footprint: Diode_THT:D_DO-41_SOD81_P10.16mm_Horizontal; Supplier: http://www.diodes.com/_files/datasheets/ds23022.pdf
footprint D_DO-41_SOD81_P10.16mm_Horizontal
pins: 1 K, 2 A

## SB130
designator *  value SB130
ki_keywords: diode Schottky; ki_description: 30V 1A Schottky Barrier Rectifier Diode, DO-41; ki_fp_filters: D*DO?41*; Footprint: Diode_THT:D_DO-41_SOD81_P10.16mm_Horizontal; Supplier: http://www.diodes.com/_files/datasheets/ds23022.pdf
footprint D_DO-41_SOD81_P10.16mm_Horizontal
pins: 1 K, 2 A

## SB140
designator *  value SB140
ki_keywords: diode Schottky; ki_description: 40V 1A Schottky Barrier Rectifier Diode, DO-41; ki_fp_filters: D*DO?41*; Footprint: Diode_THT:D_DO-41_SOD81_P10.16mm_Horizontal; Supplier: http://www.diodes.com/_files/datasheets/ds23022.pdf
footprint D_DO-41_SOD81_P10.16mm_Horizontal
pins: 1 K, 2 A